# Altium schematic symbol library SCH - POWER - SWITCHMODE - TI TPS62134BRGT.SchLib: 1 symbol
Pins are listed as number, name and electrical type; pins without a type are passive.

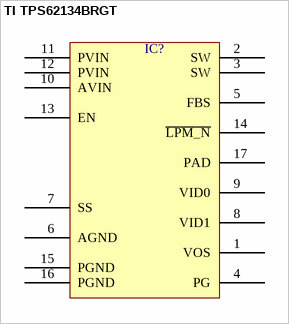
[diagram p0: symbol TI TPS62134BRGT]

## TI TPS62134BRGT
designator IC?  (value not drawn)
pins: 1 VOS, 2 SW, 3 SW, 4 PG, 5 FBS, 6 AGND, 7 SS, 8 VID1, 9 VID0, 10 AVIN, 11 PVIN, 12 PVIN, 13 EN, 14 ~{LPM_N}, 15 PGND, 16 PGND, 17 PAD